# Altium schematic symbol library RF_Module.SchLib: 61 symbols (part 2 of 2)
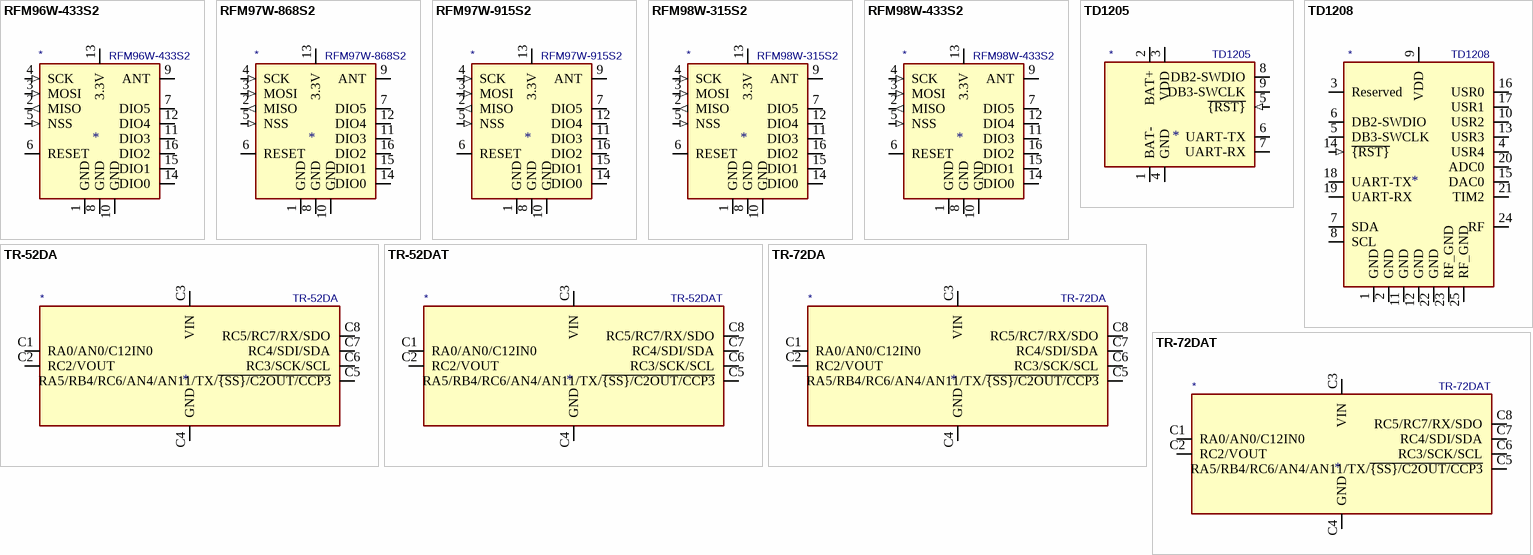
[diagram p4: symbols RFM96W-433S2 to TR-72DAT]

## RFM98W-433S2
designator *  value RFM98W-433S2
ki_keywords: Low power long range transceiver module; ki_description: Low power long range transceiver module, SPI and parallel interface, 433 MHz, spreading factor 6 to12, bandwidth 7.8 to 500kHz, -111 to -148 dBm, SMD-16, DIP-16; ki_fp_filters: HOPERF*RFM9XW*; Supplier: https://www.hoperf.com/data/upload/portal/20181127/5bfcdb5e17543.pdf
pins: 1 GND (power), 2 MISO (out), 3 MOSI (in), 4 SCK (in), 5 NSS (in), 6 RESET (io), 7 DIO5 (io), 8 GND (power), 9 ANT (io), 10 GND (power), 11 DIO3 (io), 12 DIO4 (io), 13 3.3V (power), 14 DIO0 (io), 15 DIO1 (io), 16 DIO2 (io)

## TD1205
designator *  value TD1205
ki_keywords: IOT SIGFOX GPS; ki_description: High-Performance, Low-Current SIGFOX™ Gateway And GPS Receiver With Integrated Antennas; ki_fp_filters: TD1205*; Footprint: RF_Module:TD1205; Supplier: https://github.com/Telecom-Design/Documentation_TD_RF_Module/blob/master/TD1205%20Datasheet.pdf
footprint TD1205
pins: 1 BAT- (power), 2 BAT+ (power), 3 VDD (power), 4 GND (power), 5 ~{{RST}} (in), 6 UART-TX (io), 7 UART-RX (io), 8 DB2-SWDIO (io), 9 DB3-SWCLK (io)

## TD1208
designator *  value TD1208
ki_keywords: IOT SIGFOX; ki_description: High-Performance, Low-Current SIGFOX™ Gateway; ki_fp_filters: TD1208*; Footprint: RF_Module:TD1208; Supplier: https://github.com/Telecom-Design/Documentation_TD_RF_Module/blob/master/TD1208%20Datasheet.pdf
footprint TD1208
pins: 1 GND (power), 2 GND (power), 3 Reserved, 4 USR4 (io), 5 DB3-SWCLK (io), 6 DB2-SWDIO (io), 7 SDA (io), 8 SCL (io), 9 VDD (power), 10 USR2 (io), 11 GND (power), 12 GND (power), 13 USR3 (io), 14 ~{{RST}} (in), 15 DAC0 (io), 16 USR0 (io), 17 USR1 (io), 18 UART-TX (io), 19 UART-RX (io), 20 ADC0 (io), 21 TIM2 (io), 22 GND (power), 23 RF_GND (power), 24 RF (io), 25 RF_GND (power)

## TR-52DA
designator *  value TR-52DA
ki_keywords: IQRF common transceiver, PCB antenna, FSK modulation; ki_description: IQRF common transceiver with PCB antenna, FSK modulation; ki_fp_filters: IQRF?TRx2DA?KON?SIM?01*; Footprint: RF_Module:IQRF_TRx2DA_KON-SIM-01; Supplier: https://iqrf.org/weben/downloads.php?id=213
footprint IQRF_TRx2DA_KON-SIM-01
pins: C1 RA0/AN0/C12IN0 (io), C2 RC2/VOUT (io), C3 VIN (power), C4 GND (power), C5 RA5/RB4/RC6/AN4/AN11/TX/~{{SS}/C2OUT/CCP3} (io), C6 RC3/SCK/SCL (io), C7 RC4/SDI/SDA (io), C8 RC5/RC7/RX/SDO (io)

## TR-52DAT
designator *  value TR-52DAT
ki_keywords: IQRF common transceiver, PCB antenna, thermometer, FSK modulation; ki_description: IQRF common transceiver with PCB antenna and thermometer, FSK modulation; ki_fp_filters: IQRF?TRx2DA?KON?SIM?01*; Footprint: RF_Module:IQRF_TRx2DA_KON-SIM-01; Supplier: https://iqrf.org/weben/downloads.php?id=213
footprint IQRF_TRx2DA_KON-SIM-01
pins: C1 RA0/AN0/C12IN0 (io), C2 RC2/VOUT (io), C3 VIN (power), C4 GND (power), C5 RA5/RB4/RC6/AN4/AN11/TX/~{{SS}/C2OUT/CCP3} (io), C6 RC3/SCK/SCL (io), C7 RC4/SDI/SDA (io), C8 RC5/RC7/RX/SDO (io)

## TR-72DA
designator *  value TR-72DA
ki_keywords: IQRF transceiver, PCB antenna, GMSK modulation; ki_description: IQRF transceiver with PCB antenna, GMSK modulation; ki_fp_filters: IQRF?TRx2DA?KON?SIM?01*; Footprint: RF_Module:IQRF_TRx2DA_KON-SIM-01; Supplier: https://iqrf.org/weben/downloads.php?id=337
footprint IQRF_TRx2DA_KON-SIM-01
pins: C1 RA0/AN0/C12IN0 (io), C2 RC2/VOUT (io), C3 VIN (power), C4 GND (power), C5 RA5/RB4/RC6/AN4/AN11/TX/~{{SS}/C2OUT/CCP3} (io), C6 RC3/SCK/SCL (io), C7 RC4/SDI/SDA (io), C8 RC5/RC7/RX/SDO (io)

## TR-72DAT
designator *  value TR-72DAT
ki_keywords: IQRF transceiver, PCB antenna, thermometer, GMSK modulation; ki_description: IQRF transceiver with PCB antenna and thermometer, GMSK modulation; ki_fp_filters: IQRF?TRx2DA?KON?SIM?01*; Footprint: RF_Module:IQRF_TRx2DA_KON-SIM-01; Supplier: https://iqrf.org/weben/downloads.php?id=337
footprint IQRF_TRx2DA_KON-SIM-01
pins: C1 RA0/AN0/C12IN0 (io), C2 RC2/VOUT (io), C3 VIN (power), C4 GND (power), C5 RA5/RB4/RC6/AN4/AN11/TX/~{{SS}/C2OUT/CCP3} (io), C6 RC3/SCK/SCL (io), C7 RC4/SDI/SDA (io), C8 RC5/RC7/RX/SDO (io)